# EAGLE library part AX5043 (library ruark2)
IC RF TxRx Only General ISM < 1GHz 27MHz ~ 1.05GHz 28-VFQFN Exposed Pad
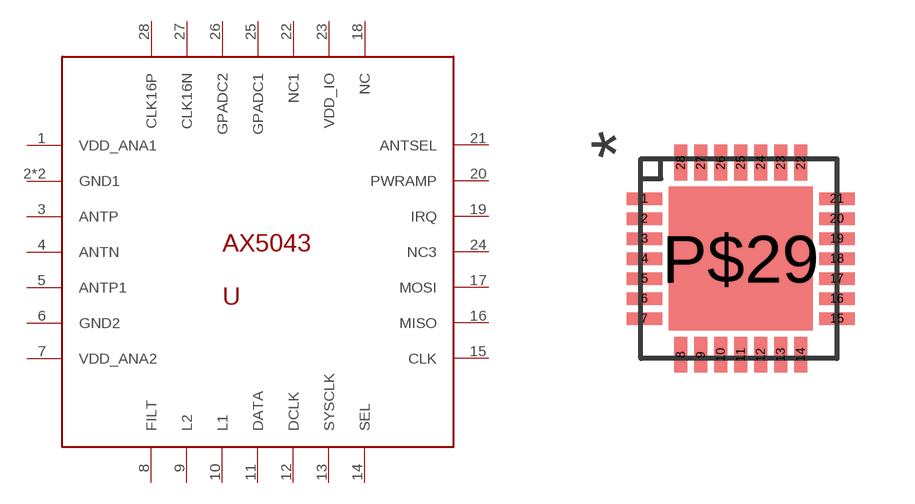
[diagram p15: symbol with the pads of QFN28-55; footprint QFN28-55]

Designator prefix U

## AX5043 (PARTNO: AX5043-1-TA05OSCT-ND)  [QFN28-55]
1  VDD_ANA1
2  GND1
3  ANTP
4  ANTN
5  ANTP1
6  GND2
7  VDD_ANA2
8  FILT
9  L2
10  L1
11  DATA
12  DCLK
13  SYSCLK
14  SEL
15  CLK
16  MISO
17  MOSI
18  NC
19  IRQ
20  PWRAMP
21  ANTSEL
22  NC1
23  VDD_IO
24  NC3
25  GPADC1
26  GPADC2
27  CLK16N
28  CLK16P
P$29  GND1

## Footprint QFN28-55 (pad centres in mm)
smd 0.89 x 0.32: 1 0.245,4.15; 2 0.245,3.65; 3 0.245,3.15; 4 0.245,2.65; 5 0.245,2.15; 6 0.245,1.65; 7 0.245,1.15; 15 5.055,1.15; 16 5.055,1.65; 17 5.055,2.15; 18 5.055,2.65; 19 5.055,3.15; 20 5.055,3.65; 21 5.055,4.15
smd 0.32 x 0.89: 8 1.15,0.245; 9 1.65,0.245; 10 2.15,0.245; 11 2.65,0.245; 12 3.15,0.245; 13 3.65,0.245; 14 4.15,0.245; 22 4.15,5.055; 23 3.65,5.055; 24 3.15,5.055; 25 2.65,5.055; 26 2.15,5.055; 27 1.65,5.055; 28 1.15,5.055
smd 3.6 x 3.6: P$29 2.65,2.65